# Altium footprint library Banana_jacks.PcbLib: 6 footprints
Each footprint in its own frame and in the unit in brackets; x right, y up, seen from the top. Pads: shape width x height; smd on the part's side, far side on the other; paste and mask are expansions set on the pad; w line width, h text height; cw(c..) or ccw(c..) is an arc to the next point about the centre after c.
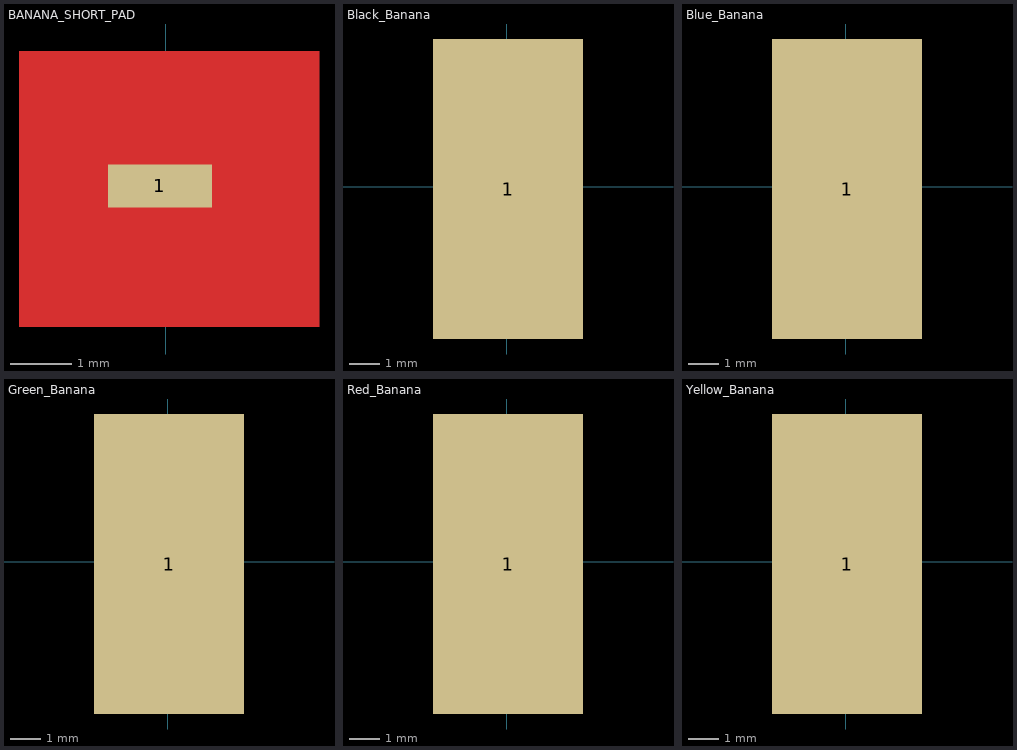
[diagram p0: the footprints below, top view; thin cyan lines are the x and y axes]

## BANANA_SHORT_PAD [mm]
pads (1):
  rect 1.7x0.7 smd paste+0 mask+0: 1(-0.1,-2.8)
Top Layer:
  region: -2.4,-5.1 2.5,-5.1 2.5,-0.6 -2.4,-0.6
3D body "Banana_jack_black.STEP": height 7.65, standoff -6.85, extent -7.21,-4.27 7.29,26.23

## Black_Banana [mm]
pads (1):
  rect 5x10 smd: 1(0.04,-0.08)
3D body "Banana_jack_black.STEP": height 7.65, standoff -6.85, extent -7.21,-4.27 7.29,26.23

## Blue_Banana [mm]
pads (1):
  rect 5x10 smd: 1(0.04,-0.08)
3D body "Banana_jack_blue.STEP": height 7.65, standoff -6.85, extent -7.21,-4.27 7.29,26.23

## Green_Banana [mm]
pads (1):
  rect 5x10 smd: 1(0.04,-0.08)
3D body "Banana_jack_green.STEP": height 7.65, standoff -6.85, extent -7.21,-4.27 7.29,26.23

## Red_Banana [mm]
pads (1):
  rect 5x10 smd: 1(0.04,-0.08)
3D body "Banana_jack_red.STEP": height 7.65, standoff -6.85, extent -7.21,-4.27 7.29,26.23

## Yellow_Banana [mm]
pads (1):
  rect 5x10 smd: 1(0.04,-0.08)
3D body "Banana_jack_yellow.STEP": height 7.65, standoff -6.85, extent -7.21,-4.27 7.29,26.23